# Altium schematic symbol library C0805C103F5GACTU.SchLib: 1 symbol
Pins are listed as number, name and electrical type; pins without a type are passive.

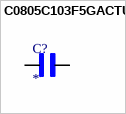
[diagram p0: symbol C0805C103F5GACTU]

## C0805C103F5GACTU
designator C?
CAP CER 10000PF 50V C0G/NP0 0805; MF: {'manufacturer': u'KEMET'}; MP: C0805C103F5GACTU; Package: None; Price: None; Value: *; Availability: Unavailable
footprint CAPC2012X88N
pins: 1, 2